# EAGLE library part CC2530 (library CC2530)
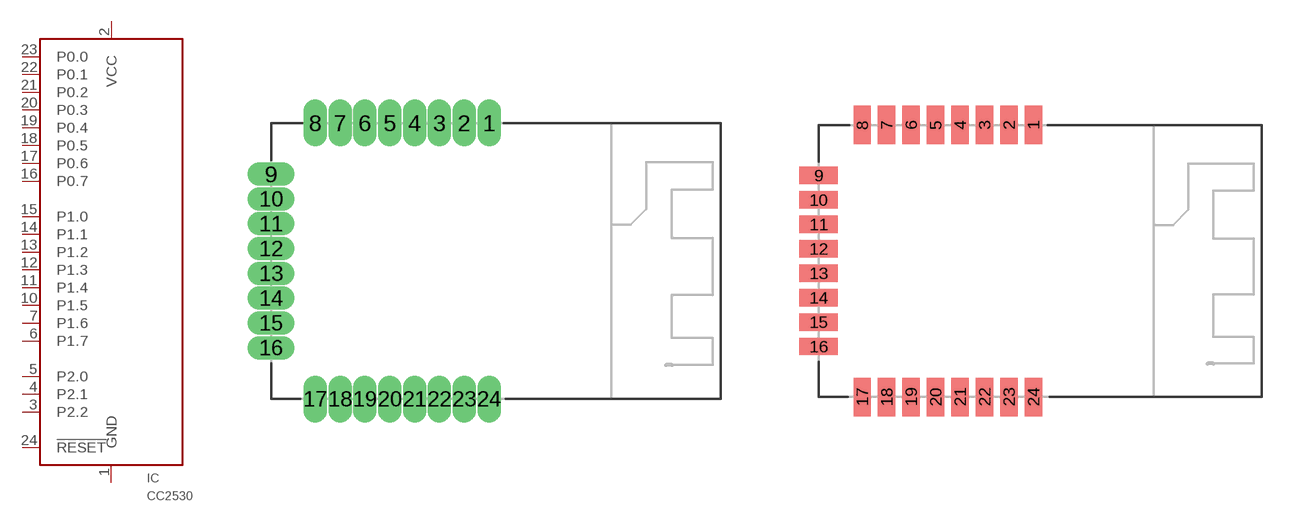
[diagram p0: symbol with the pads of E18-MS1-PCB; footprints E18-MS1-PCB, E18-MS1-PCB-SMD]

Designator prefix IC

## CC2530THT  [E18-MS1-PCB]
1  GND  pas
2  VCC  pas
3  P2.2  pas
4  P2.1  pas
5  P2.0  pas
6  P1.7  pas
7  P1.6  pas
10  P1.5  pas
11  P1.4  pas
12  P1.3  pas
13  P1.2  pas
14  P1.1  pas
15  P1.0  pas
16  P0.7  pas
17  P0.6  pas
18  P0.5  pas
19  P0.4  pas
20  P0.3  pas
21  P0.2  pas
22  P0.1  pas
23  P0.0  pas
24  !RESET  pas

## CC2530SMD  [E18-MS1-PCB-SMD]
Pads as for E18-MS1-PCB

## Footprint E18-MS1-PCB (pad centres in mm)
drill 0.7 pad 0.9 long: 1 -0.35,7.065; 2 -1.62,7.065; 3 -2.89,7.065; 4 -4.16,7.065; 5 -5.43,7.065; 6 -6.7,7.065; 7 -7.97,7.065; 8 -9.24,7.065; 9 -11.5,4.445; 10 -11.5,3.175; 11 -11.5,1.905; 12 -11.5,0.635; 13 -11.5,-0.635; 14 -11.5,-1.905; 15 -11.5,-3.175; 16 -11.5,-4.445; 17 -9.24,-7.065; 18 -7.97,-7.065; 19 -6.7,-7.065; 20 -5.43,-7.065; 21 -4.16,-7.065; 22 -2.89,-7.065; 23 -1.62,-7.065; 24 -0.35,-7.065

## Footprint E18-MS1-PCB-SMD (pad centres in mm)
smd 0.9 x 2: 1 -0.35,7.065; 2 -1.62,7.065; 3 -2.89,7.065; 4 -4.16,7.065; 5 -5.43,7.065; 6 -6.7,7.065; 7 -7.97,7.065; 8 -9.24,7.065; 17 -9.24,-7.065; 18 -7.97,-7.065; 19 -6.7,-7.065; 20 -5.43,-7.065; 21 -4.16,-7.065; 22 -2.89,-7.065; 23 -1.62,-7.065; 24 -0.35,-7.065
smd 2 x 0.9: 9 -11.5,4.445; 10 -11.5,3.175; 11 -11.5,1.905; 12 -11.5,0.635; 13 -11.5,-0.635; 14 -11.5,-1.905; 15 -11.5,-3.175; 16 -11.5,-4.445